# EAGLE library part LTC1663 (library C8051F300)
LTC1663 10-bit Rail-to-Rail DAC with 2-wire interface compatible with I2C
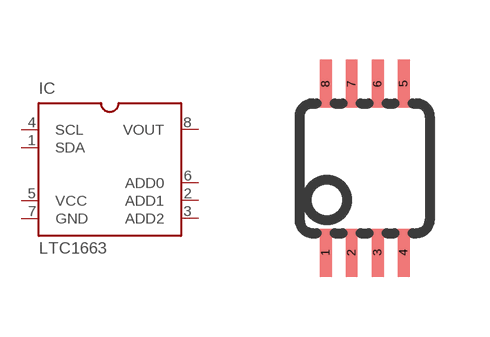
[diagram p1: symbol with the pads of MSOP08; footprint MSOP08]

Designator prefix IC

## LTC1663  [MSOP08]
1  SDA
2  ADD1  in
3  ADD2  in
4  SCL  in
5  VCC  pwr
6  ADD0  in
7  GND  sup
8  VOUT  out

## Footprint MSOP08 (pad centres in mm)
smd 0.3 x 1.2: 1 -0.976,-2.113; 2 -0.326,-2.113; 3 0.324,-2.113; 4 0.974,-2.113; 5 0.974,2.112; 6 0.324,2.112; 7 -0.326,2.112; 8 -0.976,2.112